# Altium schematic symbol library Schlib5.SchLib: 1 symbol
Pins are listed as number, name and electrical type; pins without a type are passive.

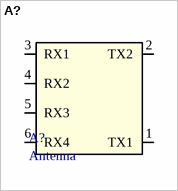
[diagram p0: symbol A?]

## A?
designator A?, comment Antenna
footprint Antenna (24GHz)
pins: 1 TX1, 2 TX2, 3 RX1, 4 RX2, 5 RX3, 6 RX4